# Altium footprint library FlowSense-RX.PcbLib: 16 footprints
Each footprint in its own frame and in the unit in brackets; x right, y up, seen from the top. Pads: shape width x height; smd on the part's side, far side on the other; paste and mask are expansions set on the pad; w line width, h text height; cw(c..) or ccw(c..) is an arc to the next point about the centre after c.
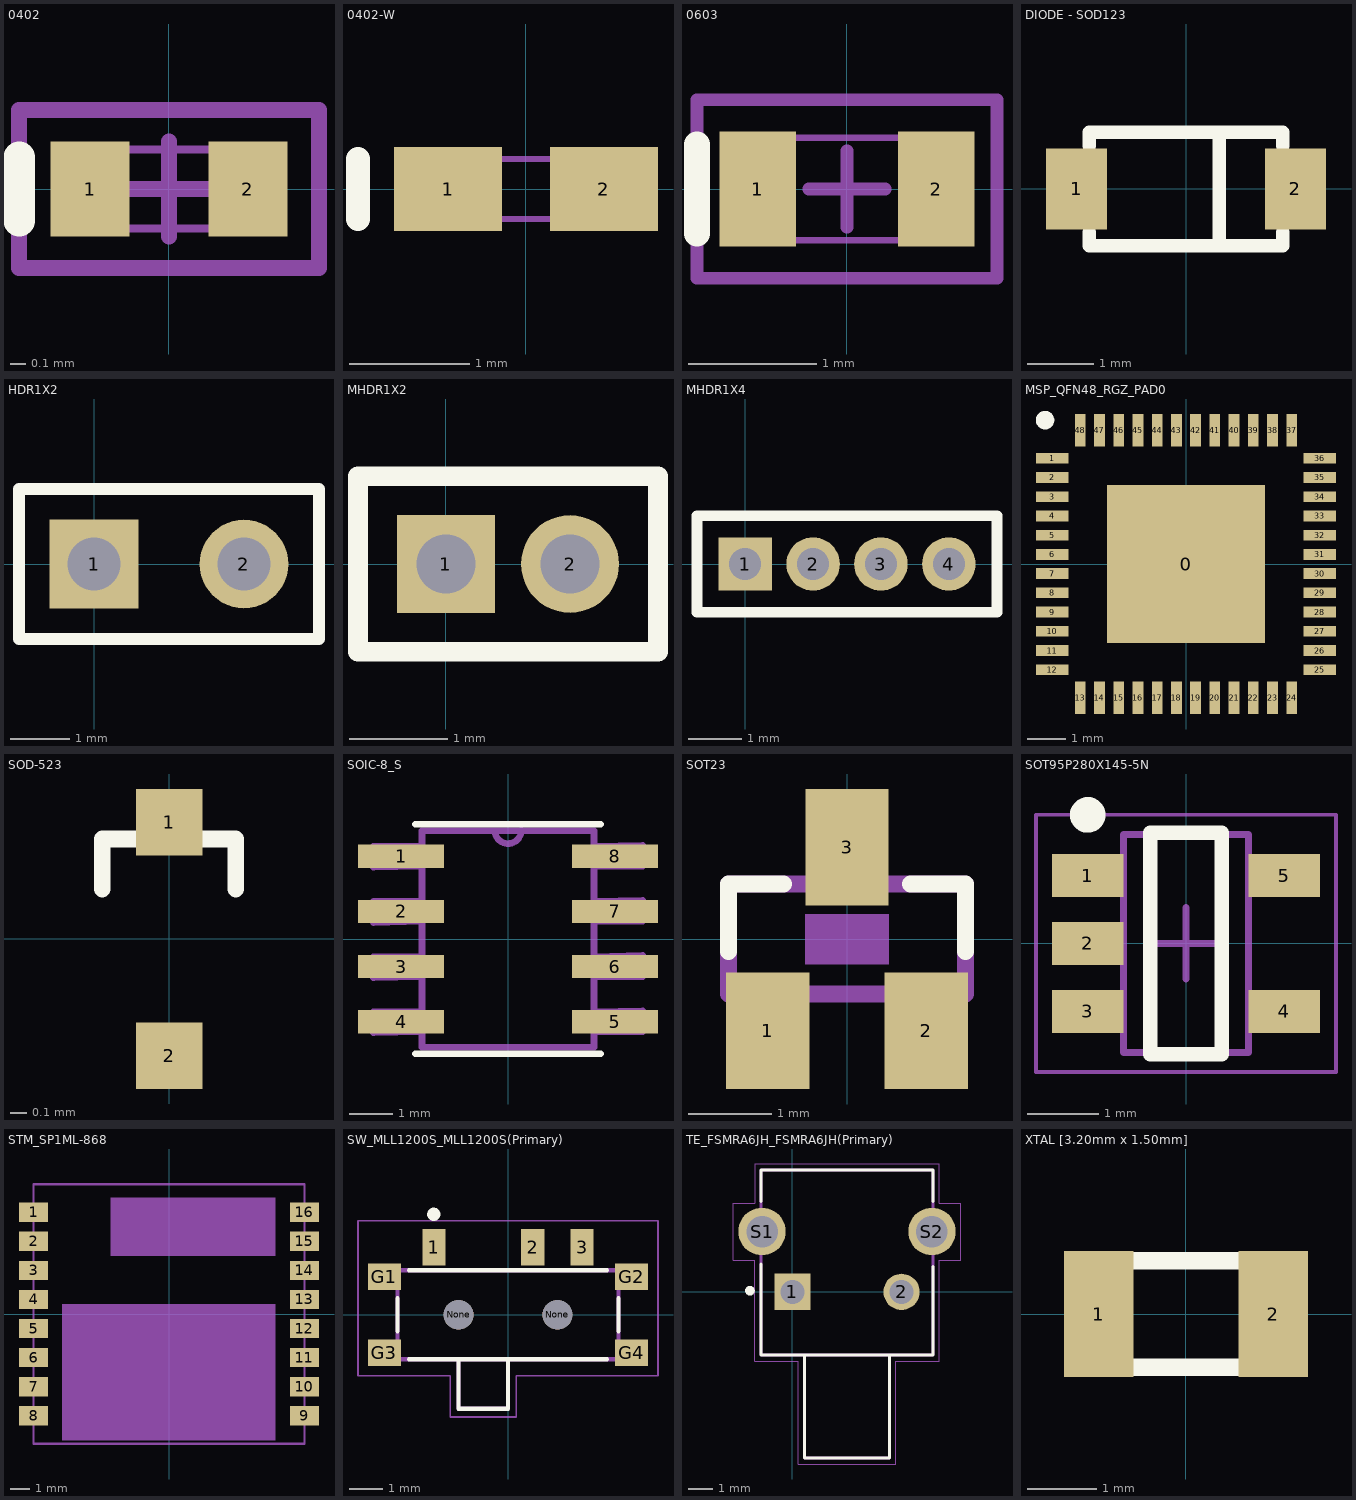
[diagram p0: the footprints below, top view; thin cyan lines are the x and y axes]

## 0402 [mm] "Surface Mount; Body 1 x 0.5 mm (LxW typ)"
height 0.5
pads (2):
  rect 0.5x0.6 smd: 1(-0.5,0) 2(0.5,0)
Top Overlay:
  lines w0.2: -0.95,-0.2 -0.95,0.2
Mechanical 13:
  lines w0.051: -0.5,-0.25 -0.5,0.25 0.5,0.25 0.5,-0.25 -0.5,-0.25
  text ".Designator" at -0.4,-0.1 h0.23
Mechanical 15:
  lines w0.1: -0.3,0 0.3,0 ; 0,-0.3 0,0.3 ; -0.95,-0.5 -0.95,0.5 0.95,0.5 0.95,-0.5 -0.95,-0.5
3D body: height 0.5, standoff 0, extent -0.5,-0.25 0.5,0.25

## 0402-W [mm] "Surface Mount - Wide; Body 1.0 x 0.5 mm (LxW typ)"
height 0.5
pads (2):
  rect 0.9x0.7 smd: 1(-0.65,0) 2(0.65,0)
Top Overlay:
  lines w0.2: -1.4,-0.25 -1.4,0.25
Mechanical 13:
  lines w0.051: -0.5,-0.25 -0.5,0.25 0.5,0.25 0.5,-0.25 -0.5,-0.25
3D body: height 0.5, standoff 0, extent -0.5,-0.25 0.5,0.25

## 0603 [mm] "Surface Mount; Body 1.6 x 0.8 mm (LxW typ)"
height 0.8
pads (2):
  rect 0.6x0.9 smd: 1(-0.7,0) 2(0.7,0)
Top Overlay:
  lines w0.2: -1.175,-0.35 -1.175,0.35
Mechanical 13:
  lines w0.051: -0.8,-0.4 0.8,-0.4 0.8,0.4 -0.8,0.4 -0.8,-0.4
  text ".Designator" at -0.65,-0.1 h0.3
Mechanical 15:
  lines w0.1: -0.3,0 0.3,0 ; 0,-0.3 0,0.3 ; -1.175,-0.7 1.175,-0.7 1.175,0.7 -1.175,0.7 -1.175,-0.7
3D body: height 0.8, standoff 0, extent -0.8,-0.4 0.8,0.4

## DIODE - SOD123 [mil] "SOD-123; 2 Leads; Body 2.7 x 1.6 mm, (LxW)"
height 53.15
pads (2):
  rect 36x48 smd: 1(-64.5,0) 2(64.5,0)
Top Overlay:
  lines w7.87: -57.09,-25.59 -57.09,-33.46 57.09,-33.46 57.09,-25.59 ; -57.09,25.59 -57.09,33.46 57.09,33.46 57.09,25.59 ; 19.68,-33.46 19.68,33.46
3D body: height 90.55, standoff 0, extent -57.09,-33.46 57.09,33.46

## HDR1X2 [mm] "Connector; Header; 2 Position"
height 8.2
pads (2):
  rect 1.5x1.5 hole 0.9: 1(0,0)
  round 1.5 hole 0.9: 2(2.54,0)
Top Overlay:
  lines w0.2: -1.27,-1.27 -1.27,1.27 3.81,1.27 3.81,-1.27 -1.27,-1.27

## MHDR1X2 [mm] "Connector; Header; 2 Position"
height 8.2
pads (2):
  rect 1x1 hole 0.6: 1(0,0)
  round 1 hole 0.6: 2(1.27,0)
Top Overlay:
  lines w0.2: -0.9,-0.9 2.17,-0.9 2.17,0.9 -0.9,0.9 -0.9,-0.9

## MHDR1X4 [mm] "Connector; Header; 4 Position"
height 8.2
pads (4):
  rect 1x1 hole 0.6: 1(0,0)
  round 1 hole 0.6: 2(1.27,0) 3(2.54,0) 4(3.81,0)
Top Overlay:
  lines w0.2: -0.9,-0.9 4.71,-0.9 4.71,0.9 -0.9,0.9 -0.9,-0.9

## MSP_QFN48_RGZ_PAD0 [mm]
height 8.2
pads (49):
  rect 4.1x4.1 smd: 0(0,0)
  rect 0.85x0.28 smd: 1(-3.475,2.75) 2(-3.475,2.25) 3(-3.475,1.75) 4(-3.475,1.25) 5(-3.475,0.75) 6(-3.475,0.25) 7(-3.475,-0.25) 8(-3.475,-0.75) 9(-3.475,-1.25) 10(-3.475,-1.75) 11(-3.475,-2.25) 12(-3.475,-2.75) 25(3.475,-2.75) 26(3.475,-2.25) 27(3.475,-1.75) 28(3.475,-1.25) 29(3.475,-0.75) 30(3.475,-0.25) 31(3.475,0.25) 32(3.475,0.75) 33(3.475,1.25) 34(3.475,1.75) 35(3.475,2.25) 36(3.475,2.75)
  rect 0.28x0.85 smd: 13(-2.75,-3.475) 14(-2.25,-3.475) 15(-1.75,-3.475) 16(-1.25,-3.475) 17(-0.75,-3.475) 18(-0.25,-3.475) 19(0.25,-3.475) 20(0.75,-3.475) 21(1.25,-3.475) 22(1.75,-3.475) 23(2.25,-3.475) 24(2.75,-3.475) 37(2.75,3.475) 38(2.25,3.475) 39(1.75,3.475) 40(1.25,3.475) 41(0.75,3.475) 42(0.25,3.475) 43(-0.25,3.475) 44(-0.75,3.475) 45(-1.25,3.475) 46(-1.75,3.475) 47(-2.25,3.475) 48(-2.75,3.475)
Top Overlay:
  circle w0.254: c-3.665,3.741 r0.114
Mechanical 13:
  text ".Designator" at -2.4,1.5 h0.76
3D body: height 1, standoff 0, extent -3.302,-3.302 3.302,3.302

## SOD-523 [mm] "SOD-523 Footprint"
height 1
pads (2):
  rect 0.4x0.4 smd: 1(0,0.7) 2(0,-0.7)
Top Overlay:
  lines w0.1: -0.401,0.3 -0.401,0.6 0.399,0.6 0.399,0.3
Mechanical 13:
  text ".Designator" at -0.15,0.425 h0.25
3D body: height 1, standoff 0, extent -0.4,-0.6 0.4,0.6

## SOIC-8_S [mil]
height 322.83
pads (8):
  rect 78x21 smd: 1(-97,75) 2(-97,25) 3(-97,-25) 4(-97,-75) 5(97,-75) 6(97,-25) 7(97,25) 8(97,75)
Top Overlay:
  lines w6: -84,-104 84,-104 ; -84,104 84,104
Mechanical 1:
  lines w6: -12,98.08 ccw(c0,98.5) 12,98.92 ; -122,-85 -78,-84 -78,-66 -122,-66 -122,-85 ; -122,-35 -78,-34 -78,-16 -122,-16 -122,-35 ; -122,15 -78,16 -78,34 -122,34 -122,15 ; -122,65 -78,66 -78,84 -122,84 -122,65 ; -78,-98 -78,98 -12,98 78,98 78,-98 -78,-98 ; 78,-84 122,-84 122,-65 78,-66 78,-84 ; 78,-34 122,-34 122,-15 78,-16 78,-34 ; 78,16 122,16 122,35 78,34 78,16 ; 78,66 122,66 122,85 78,84 78,66

## SOT23 [mm]
height 8.2
pads (3):
  rect 1x1.4 smd: 1(-0.95,-1.1) 2(0.95,-1.1) 3(0,1.1)
Top Overlay:
  lines w0.203: -1.422,-0.152 -1.422,0.66 -0.764,0.66 ; 0.764,0.66 1.422,0.66 1.422,-0.152
Mechanical 1:
  region: -1.172,-0.711 -0.711,-0.711 -0.711,-1.299 -1.172,-1.299
  region: 0.713,-0.711 1.168,-0.711 1.168,-1.299 0.713,-1.299
  region: -0.229,1.295 0.229,1.295 0.229,0.714 -0.229,0.714
  region: -0.501,0.3 0.5,0.3 0.5,-0.3 -0.501,-0.3
  lines w0.203: -1.422,-0.66 -1.422,0.66 1.422,0.66 1.422,-0.66 -1.422,-0.66

## SOT95P280X145-5N [mm] "SOT23, 5-Leads, Body 2.90x2.80mm, Pitch 0.95mm, IPC Medium Density"
height 1.45
pads (5):
  rect 1x0.6 smd: 1(-1.375,0.95) 2(-1.375,0) 3(-1.375,-0.95) 4(1.375,-0.95) 5(1.375,0.95)
Top Overlay:
  circle w0.25: c-1.375,1.8 r0.125
  lines w0.2: -0.5,-1.55 0.5,-1.55 0.5,1.55 -0.5,1.55 -0.5,-1.55
Mechanical 13:
  lines w0.1: -0.875,-1.525 -0.875,1.525 0.875,1.525 0.875,-1.525 -0.875,-1.525
Mechanical 15:
  lines w0.05: -2.1,-1.8 -2.1,1.8 2.1,1.8 2.1,-1.8 -2.1,-1.8
  lines w0.1: -0.5,0 0.5,0 ; 0,-0.5 0,0.5
3D body: height 1.45, standoff 0, extent -0.875,-1.525 0.875,1.525

## STM_SP1ML-868 [mm]
height 8.2
pads (16):
  rect 1.5x1 smd: 1(-7,5.25) 2(-7,3.75) 3(-7,2.25) 4(-7,0.75) 5(-7,-0.75) 6(-7,-2.25) 7(-7,-3.75) 8(-7,-5.25) 9(7,-5.25) 10(7,-3.75) 11(7,-2.25) 12(7,-0.75) 13(7,0.75) 14(7,2.25) 15(7,3.75) 16(7,5.25)
Mechanical 1:
  region: -5.514,0.5 5.5,0.5 5.5,-6.517 -5.514,-6.517
  region: -3.006,6 5.5,6 5.5,3.006 -3.006,3.006
  lines w0.127: -7,-6.7 7,-6.7 7,6.7 -7,6.7 -7,-6.7

## SW_MLL1200S_MLL1200S(Primary) [mm]
height 8.2
pads (9):
  rect 0.7x1.1 smd: 1(-2.25,2.05) 2(0.75,2.05) 3(2.25,2.05)
  rect 1x0.8 smd: G1(-3.75,1.15) G2(3.75,1.15) G3(-3.75,-1.15) G4(3.75,-1.15)
  round 0.9 hole 0.9 unplated: None(-1.5,0) None(1.5,0)
Top Overlay:
  circle w0.2: c-2.25,3.05 r0.1
  lines w0.127: -3.35,-0.5 -3.35,0.5 ; -3,-1.35 3,-1.35 ; -3,1.35 3,1.35 ; -1.5,-1.35 -1.5,-2.85 0,-2.85 0,-1.35 ; 3.35,-0.5 3.35,0.5
Mechanical 1:
  lines w0.05: -4.55,-1.85 -4.55,2.85 4.55,2.85 4.55,-1.85 0.25,-1.85 0.25,-3.1 -1.75,-3.1 -1.75,-1.85 -4.55,-1.85
  lines w0.127: -1.5,-1.35 -1.5,-2.85 0,-2.85 0,-1.35 ; -3.35,-1.35 3.35,-1.35 3.35,1.35 -3.35,1.35 -3.35,-1.35

## TE_FSMRA6JH_FSMRA6JH(Primary) [mm]
height 8.2
pads (4):
  rect 1.498x1.498 hole 0.99: 1(0,0)
  round 1.498 hole 0.99: 2(4.5,0)
  round 1.95 hole 1.3: S1(-1.255,2.49) S2(5.755,2.49)
Top Overlay:
  circle w0.2: c-1.754,0.049 r0.1
  lines w0.127: -1.305,1.15 -1.305,-2.61 0.495,-2.61 ; -1.305,3.74 -1.305,5.025 5.805,5.025 5.805,3.74 ; 5.805,1.05 5.805,-2.61 4.005,-2.61 ; 0.495,-2.61 4.005,-2.61 ; 0.495,-2.61 0.495,-6.85 4.005,-6.85 4.005,-2.61
Mechanical 1:
  lines w0.05: -2.45,1.3 -1.555,1.3 -1.555,-2.86 0.245,-2.86 0.245,-7.1 4.255,-7.1 4.255,-2.86 6.055,-2.86 6.055,1.3 6.95,1.3 6.95,3.65 6.055,3.65 6.055,5.275 -1.555,5.275 -1.55,3.65 -2.45,3.65 -2.45,1.3
  lines w0.127: 0.495,-2.61 4.005,-2.61 ; 0.495,-2.61 -1.305,-2.61 -1.305,5.025 5.805,5.025 5.805,-2.61 4.005,-2.61 ; 0.495,-2.61 0.495,-6.85 4.005,-6.85 4.005,-2.61

## XTAL [3.20mm x 1.50mm] [mm] "FC-135   crystal - epson eletronics"
height 0.8
pads (2):
  rect 1x1.8 smd: 1(-1.25,0) 2(1.25,0)
Top Overlay:
  lines w0.254: -0.762,-0.762 0.762,-0.762 ; -0.762,0.762 0.762,0.762